# Altium schematic symbol library TMCS1107A.Schlib: 1 symbol
Pins are listed as number, name and electrical type; pins without a type are passive.

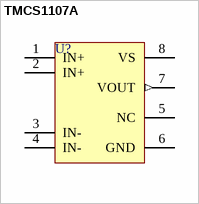
[diagram p0: symbol TMCS1107A]

## TMCS1107A
designator U?
Hall-Effect Current Sensor
pins: 1 IN+, 2 IN+, 3 IN-, 4 IN-, 5 NC, 6 GND (power), 7 VOUT (out), 8 VS (power)